# Altium footprint library VapeixS_LIB.PcbLib: 40 footprints (part 3 of 3)
Each footprint in its own frame and in the unit in brackets; x right, y up, seen from the top. Pads: shape width x height; smd on the part's side, far side on the other; paste and mask are expansions set on the pad; w line width, h text height; cw(c..) or ccw(c..) is an arc to the next point about the centre after c.
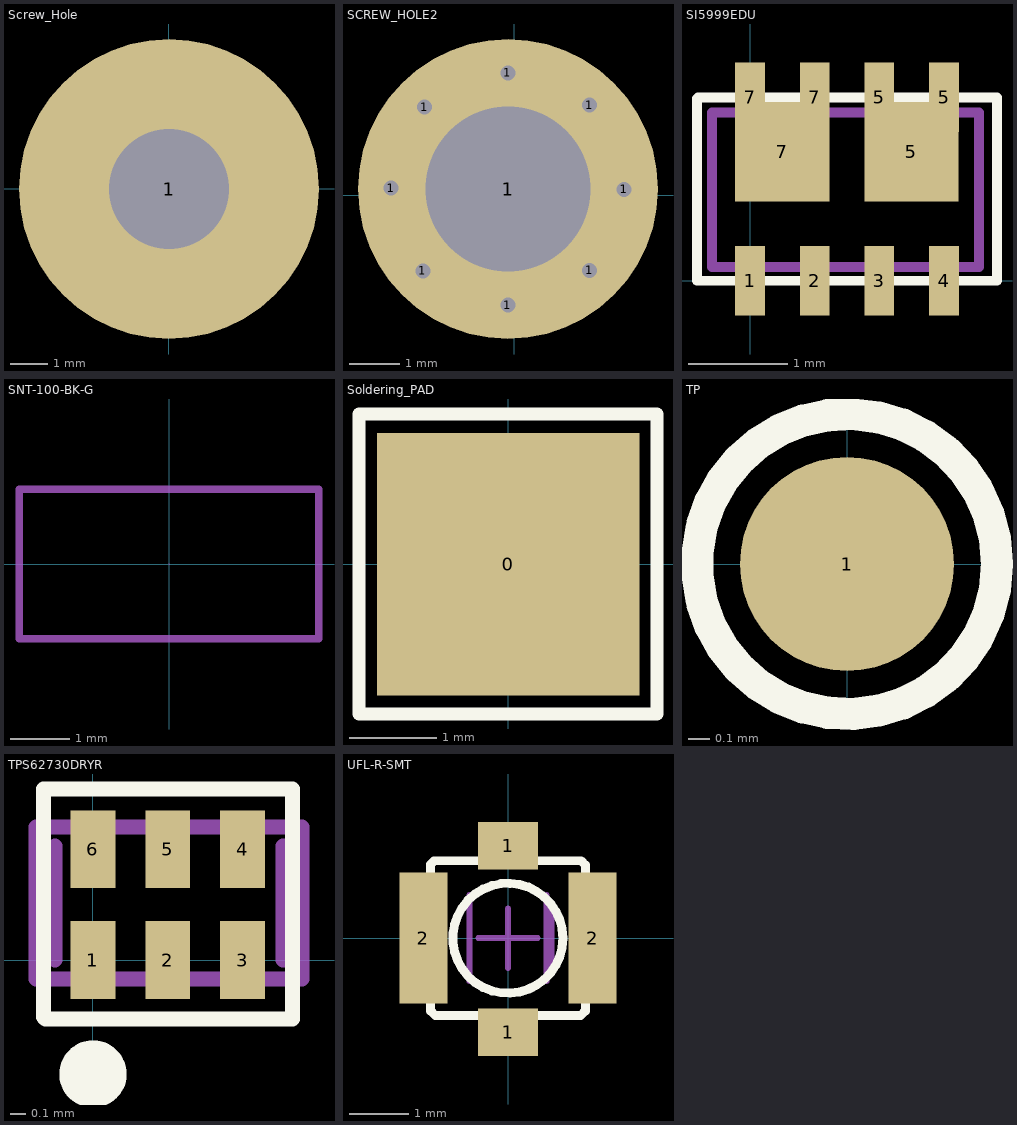
[diagram p2: the footprints below, top view; thin cyan lines are the x and y axes]

## Screw_Hole [mm] "8mm x 8mm, Hole Size 3.2mm"
pads (1):
  round 8 hole 3.2: 1(0.006,0)
Mechanical 5:
  circle w0.127: c0.006,0 r3.789
3D body "B_F_NY PMS 440 0025 PH.stp": height 2.69, standoff -8.74, extent -3.296,-3.3 3.302,3.3

## SCREW_HOLE2 [mm] "Screw hole"
pads (9):
  round 0.3 hole 0.3: 1(-2.463,0.144) 1(-1.831,-1.512) 1(-1.793,1.767) 1(-0.131,2.45) 1(-0.13,-2.193) 1(1.506,1.806) 1(1.506,-1.499) 1(2.194,0.118)
  round 6 hole 3.3: 1(-0.127,0.127)

## SI5999EDU [mm] "MOSFET 2P-CH 20V 6A POWERPAK"
pads (10):
  rect 0.3x0.7 smd: 1(0,0) 2(0.648,0) 3(1.295,0) 4(1.945,0) 5(1.295,1.841) 5(1.945,1.841) 7(0,1.841) 7(0.648,1.841)
  rect 0.945x1 smd: 5(1.619,1.296)
  rect 0.947x1 smd: 7(0.323,1.296)
Top Overlay:
  lines w0.1: 2.476,1.829 2.476,0 -0.533,0 -0.533,1.829 -0.524,1.838 2.477,1.838
Mechanical 15:
  lines w0.1: 2.299,0.14 -0.381,0.14 -0.381,1.689 2.299,1.689 2.299,0.152
3D body: height 0.1, standoff 0, extent 1.794,0.069 2.094,0.369
3D body: height 0.2, standoff 0.1, extent 1.694,0.069 2.194,0.369
3D body: height 0.1, standoff 0, extent 1.144,0.068 1.444,0.368
3D body: height 0.2, standoff 0.1, extent 1.044,0.068 1.544,0.368
3D body: height 0.1, standoff 0, extent 0.5,0.07 0.8,0.37
3D body: height 0.2, standoff 0.1, extent 0.4,0.07 0.9,0.37
3D body: height 0.2, standoff 0.1, extent -0.25,0.07 0.25,0.37
3D body: height 0.1, standoff 0, extent -0.15,0.07 0.15,0.37
3D body: height 0.85, standoff 0, extent -0.43,0.1 2.35,1.75
3D body: height 0.1, standoff 0, extent 1.795,1.471 2.095,1.771
3D body: height 0.2, standoff 0.1, extent 1.695,1.471 2.195,1.771
3D body: height 0.2, standoff 0.1, extent 1.045,1.471 1.545,1.771
3D body: height 0.1, standoff 0, extent 1.145,1.471 1.445,1.771
3D body: height 0.2, standoff 0.1, extent 0.401,1.472 0.901,1.772
3D body: height 0.1, standoff 0, extent 0.501,1.472 0.801,1.772
3D body: height 0.2, standoff 0.1, extent -0.249,1.471 0.251,1.771
3D body: height 0.1, standoff 0, extent -0.149,1.471 0.151,1.771

## SNT-100-BK-G [mil] "Samtec STEP model"
pads (1):
  round 1 on Mech3: 0(0,0)
Mechanical 5:
  lines w5: -100,-50 100,-50 100,50 -100,50 -100,-50
3D body "SNT-100-XX-X.stp": height 344, standoff 104, extent -100,-50.05 100,50.05

## Soldering_PAD [mm] "Soldering Pad"
pads (1):
  rect 3x3 smd: 0(0,0)
Top Overlay:
  lines w0.15: -1.71,-1.71 -1.71,1.72 1.7,1.72 1.7,-1.71 -1.71,-1.71

## TP [mm] "Test Point"
pads (1):
  round 1 smd paste-5: 1(0,0)
Top Overlay:
  circle w0.15: c0,0 r0.7

## TPS62730DRYR [mm] "IC DCDC CONV STP-DN SYNC LP 6SON"
pads (6):
  rect 0.3x0.52 smd: 1(0,0) 2(0.5,0) 3(1,0) 4(1,0.74) 5(0.5,0.74) 6(0,0.74)
Top Overlay:
  lines w0.1: -0.33,-0.381 -0.33,1.143 1.333,1.143 1.333,-0.394 -0.318,-0.394 -0.33,-0.381
  lines w0.25: 0.099,-0.751 ccw(c0,-0.762) 0.1,-0.762
Mechanical 13:
  lines w0.1: -0.254,0 -0.254,0.762 ; 1.27,0 1.27,0.762
Mechanical 15:
  lines w0.1: -0.381,-0.127 1.397,-0.127 1.397,0.889 -0.381,0.889 -0.381,-0.127
3D body "User Library-SON-6.STEP": height 0.6, standoff -0.05, extent -0.254,-0.194 1.246,0.956

## UFL-R-SMT [mm] "CONN UMC JACK STR 50 OHM SMD"
pads (4):
  rect 1x0.8 smd: 1(0,-1.58) 1(0,1.55)
  rect 0.8x2.2 smd: 2(-1.42,0) 2(1.42,0)
Top Overlay:
  circle w0.15: c-0.002,-0.002 r0.924
  lines w0.15: -1.3,-1.221 -1.3,1.241 -1.241,1.3 1.228,1.3 1.3,1.228 1.3,-1.221 1.221,-1.3 -1.221,-1.3 -1.3,-1.221
Mechanical 13:
  lines w0.1: -0.65,-0.725 -0.65,0.725 ; 0.65,-0.725 0.65,0.725
Mechanical 15:
  lines w0.1: -0.5,0 0.5,0 ; 0,-0.5 0,0.5 ; 0.73,-0.5 0.73,0.5
3D body "SW3dPS-UFL-R-SMD.STEP": height 1.25, standoff 0, extent -1.71,-1.55 1.69,1.55